# EAGLE library part STM32F373CC (library neels)
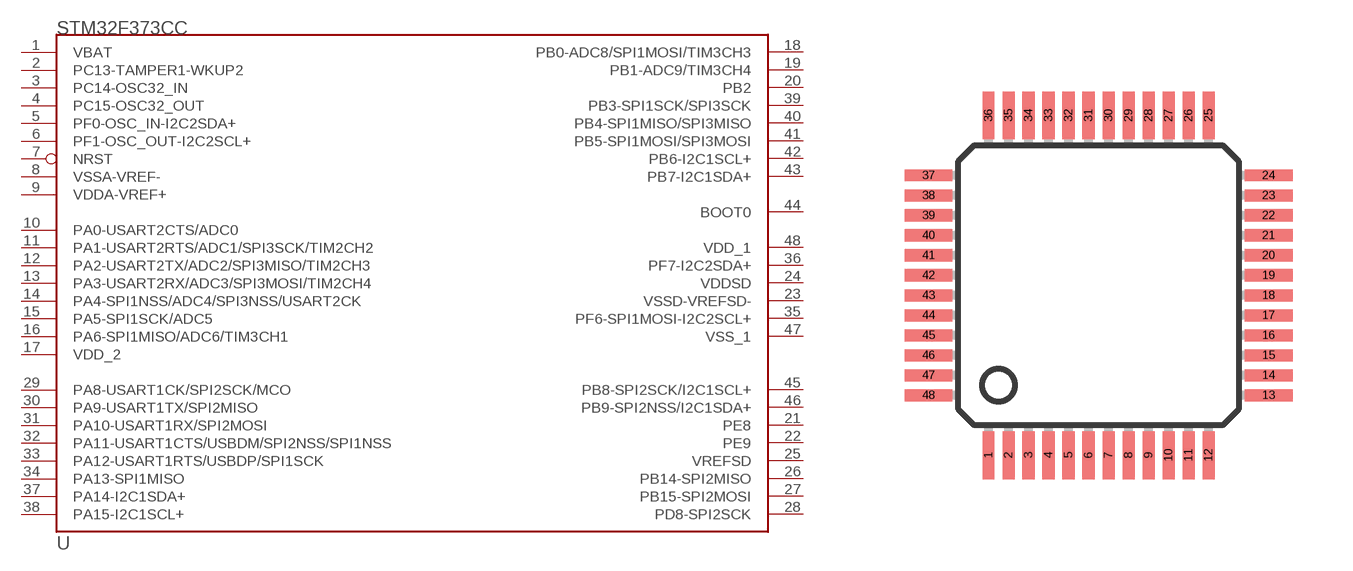
[diagram p5: symbol with the pads of LQFP48; footprint LQFP48]

Designator prefix -

## STM32F373CC  [LQFP48]
1  VBAT  sup
2  PC13-TAMPER1-WKUP2
3  PC14-OSC32_IN
4  PC15-OSC32_OUT
5  PF0-OSC_IN-I2C2SDA+
6  PF1-OSC_OUT-I2C2SCL+
7  NRST
8  VSSA-VREF-  sup
9  VDDA-VREF+  sup
10  PA0-USART2CTS/ADC0
11  PA1-USART2RTS/ADC1/SPI3SCK/TIM2CH2
12  PA2-USART2TX/ADC2/SPI3MISO/TIM2CH3
13  PA3-USART2RX/ADC3/SPI3MOSI/TIM2CH4
14  PA4-SPI1NSS/ADC4/SPI3NSS/USART2CK
15  PA5-SPI1SCK/ADC5
16  PA6-SPI1MISO/ADC6/TIM3CH1
17  VDD_2
18  PB0-ADC8/SPI1MOSI/TIM3CH3
19  PB1-ADC9/TIM3CH4
20  PB2
21  PE8
22  PE9
23  VSSD-VREFSD-  sup
24  VDDSD  sup
25  VREFSD
26  PB14-SPI2MISO
27  PB15-SPI2MOSI
28  PD8-SPI2SCK
29  PA8-USART1CK/SPI2SCK/MCO
30  PA9-USART1TX/SPI2MISO
31  PA10-USART1RX/SPI2MOSI
32  PA11-USART1CTS/USBDM/SPI2NSS/SPI1NSS
33  PA12-USART1RTS/USBDP/SPI1SCK
34  PA13-SPI1MISO
35  PF6-SPI1MOSI-I2C2SCL+
36  PF7-I2C2SDA+
37  PA14-I2C1SDA+
38  PA15-I2C1SCL+
39  PB3-SPI1SCK/SPI3SCK
40  PB4-SPI1MISO/SPI3MISO
41  PB5-SPI1MOSI/SPI3MOSI
42  PB6-I2C1SCL+
43  PB7-I2C1SDA+
44  BOOT0  in
45  PB8-SPI2SCK/I2C1SCL+
46  PB9-SPI2NSS/I2C1SDA+
47  VSS_1  sup
48  VDD_1  sup

## Footprint LQFP48 (pad centres in mm)
Based on STM PCB layout recomendations.
smd 0.3 x 1.2: 1 -2.75,-4.25; 2 -2.25,-4.25; 3 -1.75,-4.25; 4 -1.25,-4.25; 5 -0.75,-4.25; 6 -0.25,-4.25; 7 0.25,-4.25; 8 0.75,-4.25; 9 1.25,-4.25; 10 1.75,-4.25; 11 2.25,-4.25; 12 2.75,-4.25; 25 2.75,4.25; 26 2.25,4.25; 27 1.75,4.25; 28 1.25,4.25; 29 0.75,4.25; 30 0.25,4.25; 31 -0.25,4.25; 32 -0.75,4.25; 33 -1.25,4.25; 34 -1.75,4.25; 35 -2.25,4.25; 36 -2.75,4.25
smd 1.2 x 0.3: 13 4.25,-2.75; 14 4.25,-2.25; 15 4.25,-1.75; 16 4.25,-1.25; 17 4.25,-0.75; 18 4.25,-0.25; 19 4.25,0.25; 20 4.25,0.75; 21 4.25,1.25; 22 4.25,1.75; 23 4.25,2.25; 24 4.25,2.75; 37 -4.25,2.75; 38 -4.25,2.25; 39 -4.25,1.75; 40 -4.25,1.25; 41 -4.25,0.75; 42 -4.25,0.25; 43 -4.25,-0.25; 44 -4.25,-0.75; 45 -4.25,-1.25; 46 -4.25,-1.75; 47 -4.25,-2.25; 48 -4.25,-2.75